# Altium footprint library PcbLib_ZG.PcbLib: 87 footprints (part 6 of 6)
Each footprint in its own frame and in the unit in brackets; x right, y up, seen from the top. Pads: shape width x height; smd on the part's side, far side on the other; paste and mask are expansions set on the pad; w line width, h text height; cw(c..) or ccw(c..) is an arc to the next point about the centre after c.
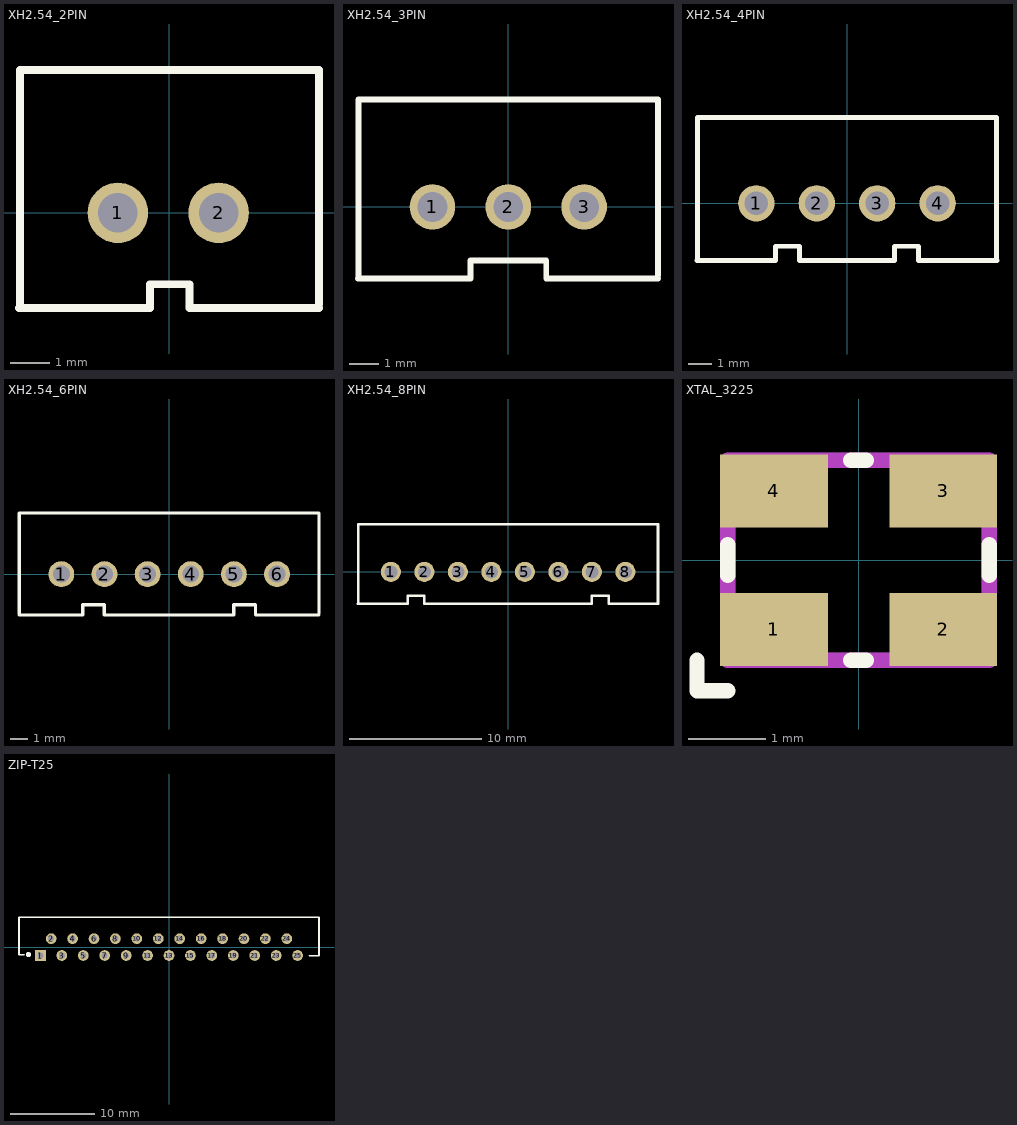
[diagram p5: the footprints below, top view; thin cyan lines are the x and y axes]

## XH2.54_2PIN [mm]
pads (2):
  round 1.524 hole 1: 1(-1.3,0) 2(1.24,0)
Top Overlay:
  lines w0.2: -3.79,-2.4 -0.49,-2.4 -0.49,-1.8 0.51,-1.8 0.51,-2.4 3.77,-2.4 ; -3.77,-2.3 -3.77,3.6 3.77,3.6 3.77,-2.3

## XH2.54_3PIN [mil]
pads (3):
  round 60 hole 39.37: 1(-100,0) 2(0,0) 3(100,0)
Top Overlay:
  lines w7.87: -198.03,-94.49 -50,-94.49 -50,-70.87 50,-70.87 50,-94.49 197.24,-94.49 ; -197.24,-90.55 -197.24,141.73 197.24,141.73 197.24,-90.55

## XH2.54_4PIN [mil]
pads (4):
  round 60 hole 39.37: 1(-150,0) 2(-50,0) 3(50,0) 4(150,0)
Top Overlay:
  lines w7.87: -248.03,-94.49 -118.11,-94.49 -118.11,-70.87 -78.74,-70.87 -78.74,-94.49 78.74,-94.49 78.74,-70.87 118.11,-70.87 118.11,-94.49 248.03,-94.49 ; -247.24,-90.55 -247.24,141.73 247.24,141.73 247.24,-90.55

## XH2.54_6PIN [mil]
pads (6):
  round 60 hole 39.37: 1(-250,0) 2(-150,0) 3(-50,0) 4(50,0) 5(150,0) 6(250,0)
Top Overlay:
  lines w7.87: -348.03,-94.49 -200,-94.49 -200,-70.87 -150,-70.87 -150,-94.49 150,-94.49 150,-70.87 200,-70.87 200,-94.49 347.24,-94.49 ; -347.24,-90.55 -347.24,141.73 347.24,141.73 347.24,-90.55

## XH2.54_8PIN [mil]
pads (8):
  round 60 hole 39.37: 1(-350,0) 2(-250,0) 3(-150,0) 4(-50,0) 5(50,0) 6(150,0) 7(250,0) 8(350,0)
Top Overlay:
  lines w7.87: -448.03,-94.49 -300,-94.49 -300,-70.87 -250,-70.87 -250,-94.49 250,-94.49 250,-70.87 300,-70.87 300,-94.49 447.24,-94.49 ; -447.24,-90.55 -447.24,141.73 447.24,141.73 447.24,-90.55

## XTAL_3225 [mm] "Quartz Crystal, SM; Body 3.4 x 2.7 mm (LxW max)"
height 1
pads (4):
  rect 1.4x0.95 smd: 1(-1.1,-0.9) 2(1.1,-0.9) 3(1.1,0.9) 4(-1.1,0.9)
Top Overlay:
  lines w0.2: -2.1,-1.3 -2.1,-1.7 -1.7,-1.7 ; -1.7,-0.2 -1.7,0.2 ; -0.1,-1.3 0.1,-1.3 ; -0.1,1.3 0.1,1.3 ; 1.7,-0.2 1.7,0.2
Mechanical 1 keep-out:
  lines w0.2: -1.7,-1.3 -1.7,1.3 1.7,1.3 1.7,-1.3 -1.7,-1.3
3D body: height 1, standoff 0, extent -1.7,-1.3 1.7,1.3

## ZIP-T25 [mm] "In-Line; 25 Zig-Zag Leads; Body 36 x 5mm; Pitch 1.27mm"
height 14
pads (25):
  rect 1.27x1.27 hole 0.711: 1(-15.24,-1)
  round 1.27 hole 0.711: 2(-13.97,1) 3(-12.7,-1) 4(-11.43,1) 5(-10.16,-1) 6(-8.89,1) 7(-7.62,-1) 8(-6.35,1) 9(-5.08,-1) 10(-3.81,1) 11(-2.54,-1) 12(-1.27,1) 13(0,-1) 14(1.27,1) 15(2.54,-1) 16(3.81,1) 17(5.08,-1) 18(6.35,1) 19(7.62,-1) 20(8.89,1) 21(10.16,-1) 22(11.43,1) 23(12.7,-1) 24(13.97,1) 25(15.24,-1)
Top Overlay:
  circle w0.3: c-16.66,-0.889 r0.15
  lines w0.2: -17.145,-0.889 -17.78,-0.889 -17.78,3.556 17.78,3.556 17.78,-1.016 16.637,-1.016
Mechanical 13:
  lines w0.1: 17.78,0.635 17.78,2.54